# EAGLE library part HEADER-02X005-1_27MM (library FlashPCB_Connectors)
Header 2x4 - Header Vertical 2x5POS 1.27MM Technical Specifications: Pitch: 0.05" (1.27mm) Rows: 2
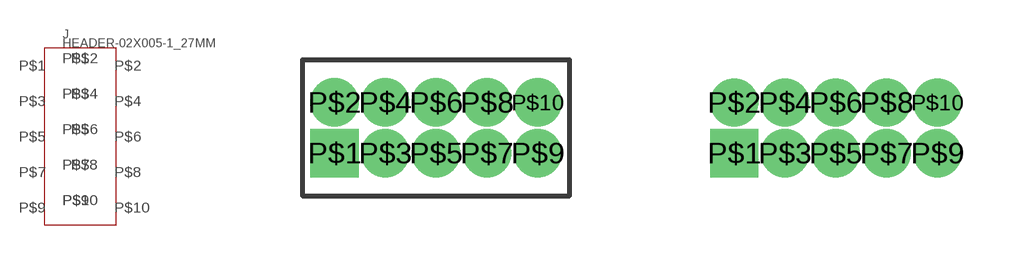
[diagram p5: symbol with the pads of HEADER-THT-02X005-1_27MM; footprints HEADER-THT-02X005-1_27MM, HEADER-THT-NOSILK-02X005-1_27MM]

Designator prefix J

## HEADER-02X005-1_27MMSTANDARD  [HEADER-THT-02X005-1_27MM]
P$1  P$1
P$2  P$2
P$3  P$3
P$4  P$4
P$5  P$5
P$6  P$6
P$7  P$7
P$8  P$8
P$9  P$9
P$10  P$10

## HEADER-02X005-1_27MMSTANDARD_NOSILK  [HEADER-THT-NOSILK-02X005-1_27MM]
Pads as for HEADER-THT-02X005-1_27MM

## Footprint HEADER-THT-02X005-1_27MM (pad centres in mm)
drill 0.7 square: P$1 0,0
drill 0.7: P$2 0,1.27; P$3 1.27,0; P$4 1.27,1.27; P$5 2.54,0; P$6 2.54,1.27; P$7 3.81,0; P$8 3.81,1.27; P$9 5.08,0; P$10 5.08,1.27

## Footprint HEADER-THT-NOSILK-02X005-1_27MM (pad centres in mm)
drill 0.7 square: P$1 0,0
drill 0.7: P$2 0,1.27; P$3 1.27,0; P$4 1.27,1.27; P$5 2.54,0; P$6 2.54,1.27; P$7 3.81,0; P$8 3.81,1.27; P$9 5.08,0; P$10 5.08,1.27